# Altium integrated library LSM303AHTR.IntLib: 1 symbol
Pins are listed as number, name and electrical type; pins without a type are passive.

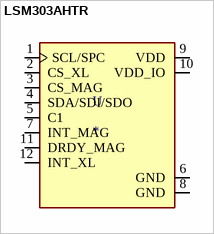
[diagram p0: symbol LSM303AHTR]

## LSM303AHTR
designator U
Accelerometer, Magnetometer, Temperature, 6 Axis Sensor IÂ²C, SPI Output; MP: LSM303AHTR; MF: STMicroelectronics; Package: LGA-12 STMicroelectronics; SnapEDA_Link: https://www.snapeda.com/parts/LSM303AHTR/STMicroelectronics/view-part/760243/?ref=snap; Availability: Unavailable; Price: None; Value: *
footprint LGA12R50P_200X200X100
pins: 1 SCL/SPC (io), 2 CS_XL (io), 3 CS_MAG (io), 4 SDA/SDI/SDO (io), 5 C1 (io), 6 GND (power), 7 INT_MAG (io), 8 GND (power), 9 VDD (power), 10 VDD_IO (power), 11 DRDY_MAG (io), 12 INT_XL (io)